# EAGLE library part 465M1111172501 (library Eagle_SWITCHES (rev18c))
15x15mm THT Push Button Switch with integrated LED RGB WS-PBTL MATERIAL PROPERTIES: Actuator Material POM Actuator Flammability Rating UL94-HB Actuator Color White Actuator Fixture Material PA66 Actuator Fixture Flammability Rating UL94-HB Actuator Fixture Color Black Frame Material PA66 Frame Flammability Rating UL94-HB Frame Color Black Stationary Board PA66 Stationary Board Flammability Rating UL94-HB Stationary Board Color Black Stationary Contact Copper Alloy Stationary Contact Plating Gold Moveable Contact Material Copper Alloy Moveable Contact Plating Gold Spring Material Carbon Steel Terminal Material Copper Alloy Terminal Plating Tin LED Terminal Copper Alloy LED Terminal Plating Tin ELECTRICAL PROPERTIES: Rated Current [1] 100 mA Contact Resistance Initial 200 mΩ Contact Resistance After Life Test 300 mΩ Insulation Resistance 100 MΩ Withstanding Voltage 500 V (AC) Bounce 10 ms MECHANICAL PROPERTIES: Operation Force 200 g Life Cycle 1000000 Times Pre-travel 2.7 mm Total travel 4.5 mm Function of Push Button momentary Actuation Feedback non-tactile Schematic SPST <http://katalog.we-online.de/media/images/v2/WS-PBTL_Illuminated_THT_Push(3).jpg> Details see: http://katalog.we-online.de/em/datasheet/465M111172501.pdf Created by Yingchun,Shan 2017-12-19 2017(C) Wurth Elektronik
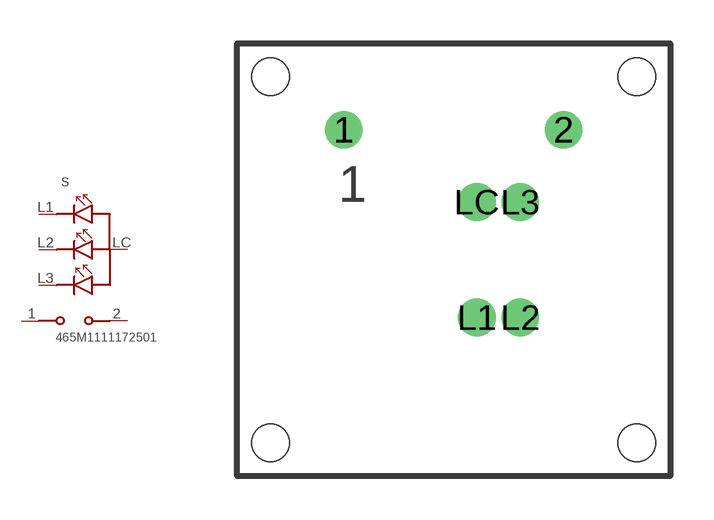
[diagram p140: symbol with the pads of 465M111172501; footprint 465M111172501]

Designator prefix S

## 465M1111172501  [465M111172501]
1  1  pas
2  2  pas
L1  L1  pas
L2  L2  pas
L3  L3  pas
LC  LC  pas

## Footprint 465M111172501 (pad centres in mm)
drill 0.8: 1 -3.81,4.5; 2 3.81,4.5
drill 0.8 pad 1.2: L1 0.8,-2; L2 2.3,-2; L3 2.3,2; LC 0.8,2
hole 1.3 at -6.35,6.35
hole 1.3 at 6.35,6.35
hole 1.3 at 6.35,-6.35
hole 1.3 at -6.35,-6.35